# EAGLE library part LTC2630 (library dviid)
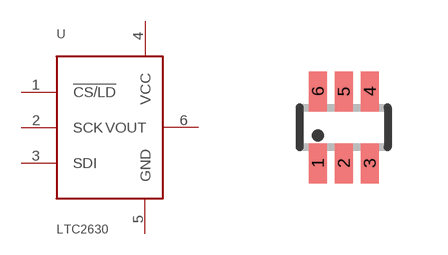
[diagram p6: symbol with the pads of SC70-6; footprint SC70-6]

Designator prefix -

## LTC2630  [SC70-6]
1  !CS/LD  in
2  SCK  in
3  SDI  in
4  VCC  pwr
5  GND  pwr
6  VOUT

## Footprint SC70-6 (pad centres in mm)
smd 0.45 x 1: 1 -0.65,-0.9; 2 0,-0.9; 3 0.65,-0.9; 4 0.65,0.9; 5 0,0.9; 6 -0.65,0.9